# EAGLE library part WE-RJ45_74984104400 (library 74980104400_Eagle_WE-RJ45_rev19b)
WE-RJ45 LAN Through Hole Reflow Characteristics RJ45 designed to use for Pin-in-Paste soldering High mechanical stability through THT pins High Temperature LEDs Extra high standoff for a good thermal airflow Power over Ethernet up to 50 W Compliant with standard: IEEE 802.3u, IEEE 802.3ab, IEEE 802.3af, IEEE 802.3at Applications Suitable for industrial temperatures from –40 °C up to +85 °C Compatible to Industrial Ethernet systems like EtherCAT or Profinet Compliant with most IC’s for Ethernet applications such as Microchip, Texas Instruments, Broadcom, Linear Technology Hubs, Routers, Switches, IP cameras, IoT applications <https://katalog.we-online.com/media/images/v2/o137453v209%20Family_WE-RJ45_THR_74980104401.jpg> Details see: https://katalog.we-online.com/en/pbs/WE-LAN-RJ45_THR Updated By Ella Wu 2019-08-14 2019 (C) Wurth Elektronik
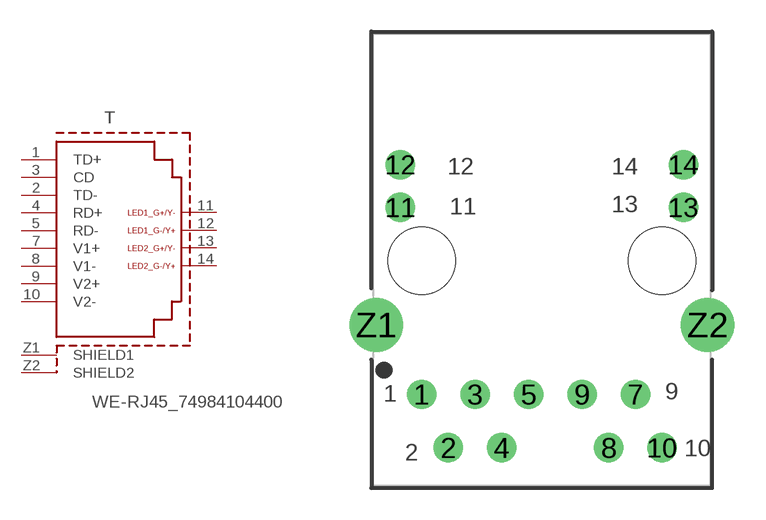
[diagram p69: symbol with the pads of 74984104400; footprint 74984104400]

Designator prefix T

## WE-RJ45_74984104400 (DATA-RATE: 10/100 Base-T; DATASHEET-URL: https://katalog.we-online.com/pbs/datasheet/74984104400.pdf; LED: green/yellow-green/yellow; MOUNT: THR; PART-NUMBER: 74984104400; POE: PoE+ (up to 600 mA); PORTS: 1; USB: No)  [74984104400]
1  TD+
2  TD-
3  CD
4  RD+
5  RD-
7  V1+
8  V1-
9  V2+
10  V2-
11  LED1_G+/Y-
12  LED1_G-/Y+
13  LED2_G+/Y-
14  LED2_G-/Y+
Z1  SHIELD1  pwr
Z2  SHIELD2  pwr

## Footprint 74984104400 (pad centres in mm)
WE-RJ45 LAN Through Hole Reflow 10/100 Base-T
drill 0.89: 1 -5.715,-6.35; 2 -4.445,-8.89; 3 -3.175,-6.35; 4 -1.905,-8.89; 5 -0.635,-6.35; 7 4.445,-6.35; 8 3.175,-8.89; 9 1.905,-6.35; 10 5.715,-8.89; 11 -6.725,2.54; 12 -6.725,4.57; 13 6.725,2.54; 14 6.725,4.57
drill 1.7: Z1 -7.875,-3.05; Z2 7.875,-3.05
hole 3.2 at -5.715,0
hole 3.2 at 5.715,0